# Altium footprint library PTC_Heater.PcbLib: 1 footprints
Each footprint in its own frame and in the unit in brackets; x right, y up, seen from the top. Pads: shape width x height; smd on the part's side, far side on the other; paste and mask are expansions set on the pad; w line width, h text height; cw(c..) or ccw(c..) is an arc to the next point about the centre after c.
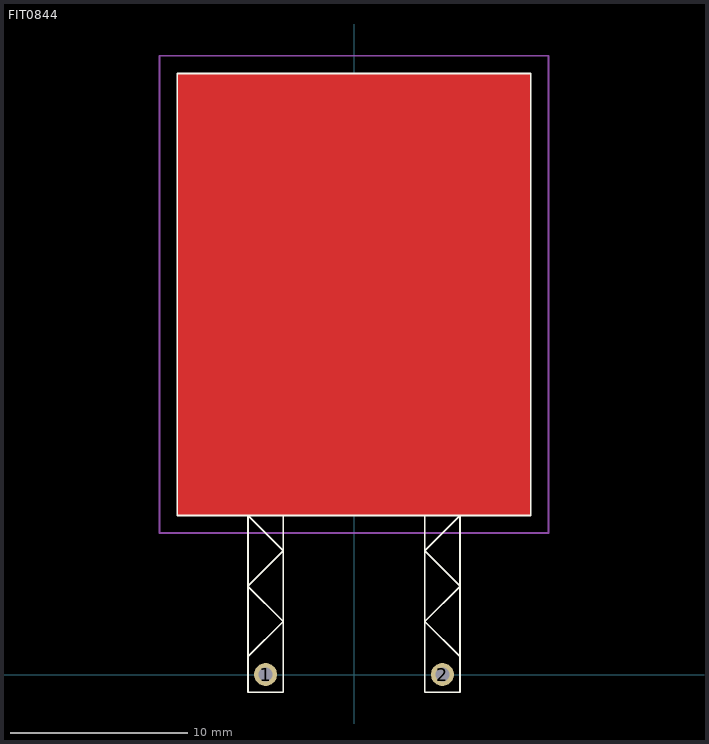
[diagram p0: the footprint, top view; thin cyan lines are the x and y axes]

## FIT0844 [mm]
pads (2):
  round 1.3 hole 0.8: 1(-5,0) 2(5,0)
Top Layer:
  region: -10,34 10,34 10,9 -10,9
Top Overlay:
  lines w0.1: -6,1 -4,3 ; -4,9 -4,-1 -6,-1 -6,9 -4,7 ; 4,9 4,-1 6,-1 6,9 4,7 6,5 4,3 ; -4,3 -6,5 -4,7 ; -4,3 -4,3 ; -4,7 -4,7 ; 4,3 4,3 ; 4,3 6,1 ; 6,1 6,1 ; -10,9 -10,34 10,34 10,9 -10,9
Mechanical 15 (Mech15):
  lines w0.1: -11,8 -11,9 -11,35 11,35 11,8 -11,8
3D body: height 5, standoff 0, extent -10,9 10,34